# Altium footprint library Connector_Hirose_DF40.PcbLib: 70 footprints (part 2 of 5)
Each footprint in its own frame and in the unit in brackets; x right, y up, seen from the top. Pads: shape width x height; smd on the part's side, far side on the other; paste and mask are expansions set on the pad; w line width, h text height; cw(c..) or ccw(c..) is an arc to the next point about the centre after c.
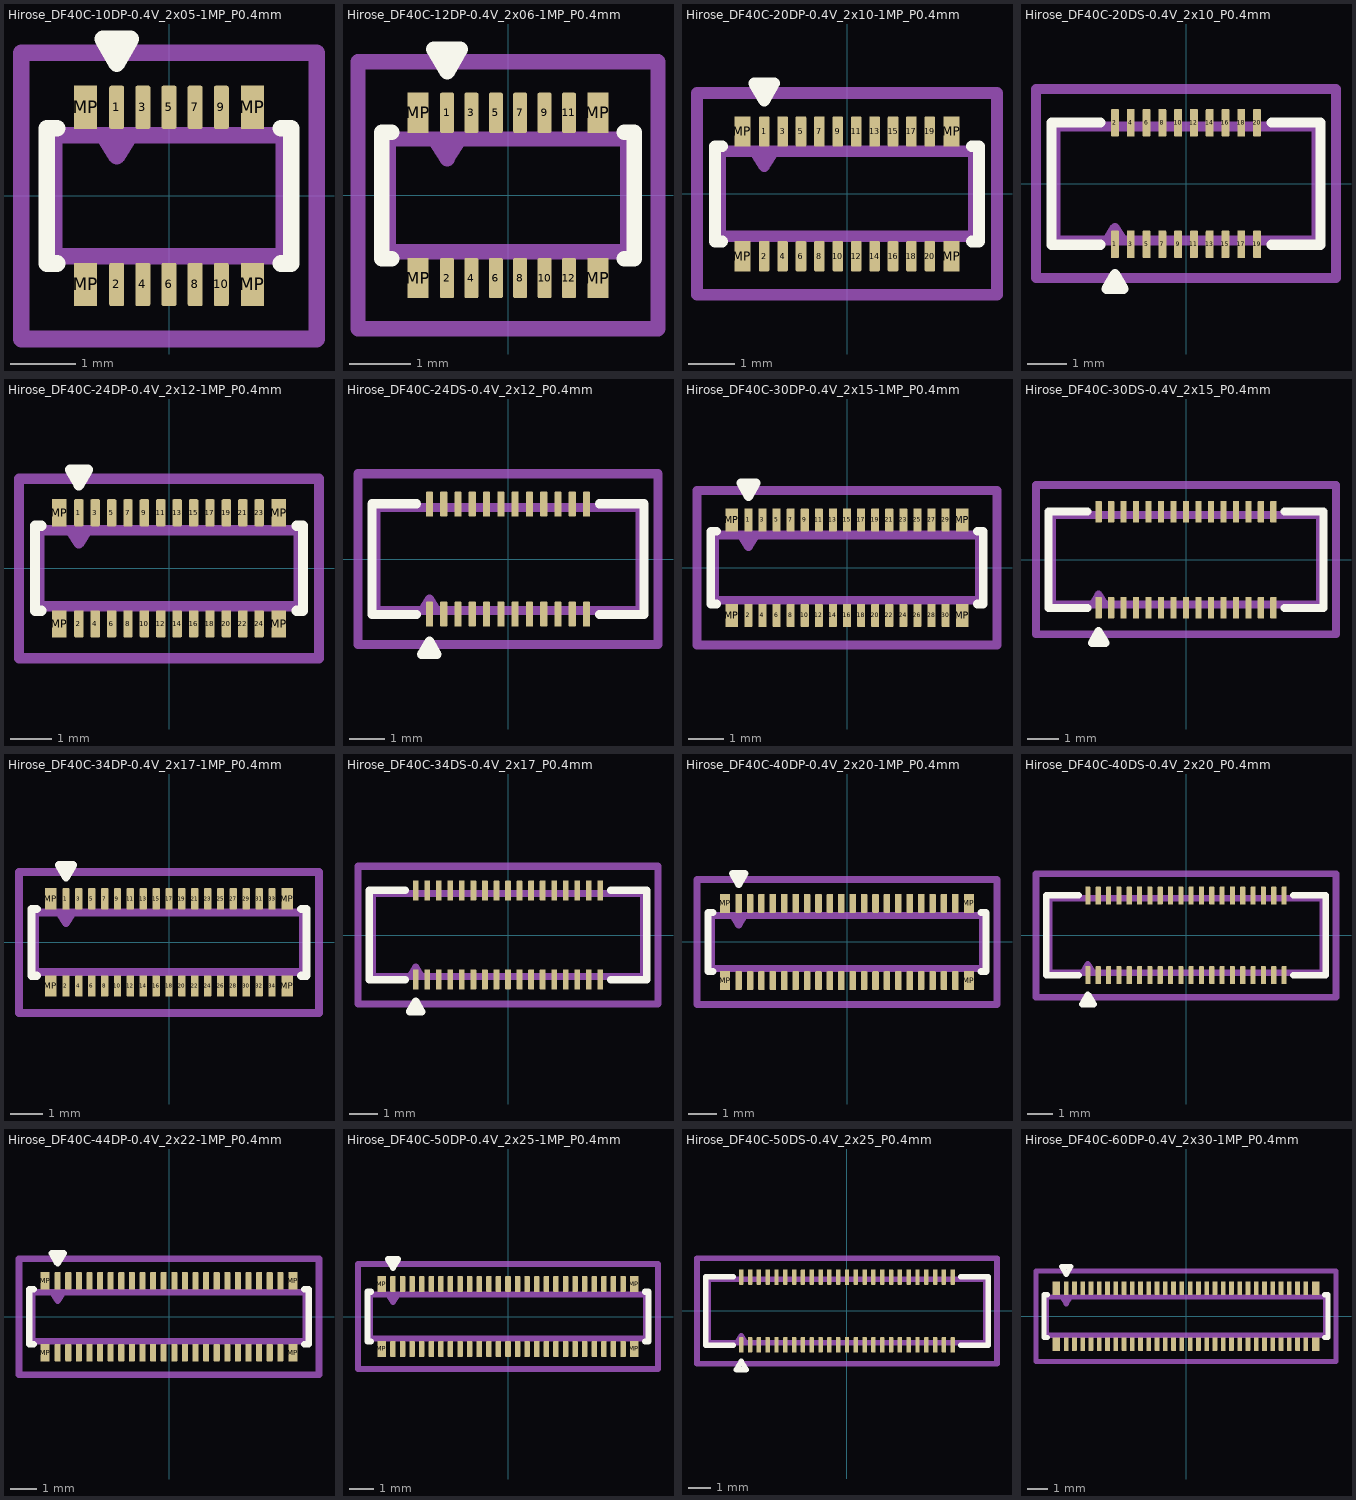
[diagram p1: the footprints below, top view; thin cyan lines are the x and y axes]

## Hirose_DF40C-10DP-0.4V_2x05-1MP_P0.4mm [mm]
pads (14):
  rrect25% 0.23x0.66 smd: 1(-0.8,1.355) 2(-0.8,-1.355) 3(-0.4,1.355) 4(-0.4,-1.355) 5(0,1.355) 6(0,-1.355) 7(0.4,1.355) 8(0.4,-1.355) 9(0.8,1.355) 10(0.8,-1.355)
  rect 0.35x0.66 smd: MP(-1.275,-1.355) MP(-1.275,1.355) MP(1.275,-1.355) MP(1.275,1.355)
F.SilkS:
  lines w0.254: -1.71,-1.035 -1.87,-1.035 -1.87,1.035 -1.71,1.035 ; 1.71,-1.035 1.87,-1.035 1.87,1.035 1.71,1.035 ; -1.017,2.4 -0.583,2.4 -0.8,2.025 -1.017,2.4
Top Assembly:
  lines w0.254: -1,0.925 -0.8,0.605 -0.6,0.925 ; -1.76,-0.925 1.76,-0.925 1.76,0.925 -1.76,0.925 -1.76,-0.925
  text "'.Designator'" at -3.559,-0.737 h0.88
Top Courtyard:
  lines w0.254: -2.26,-2.19 2.26,-2.19 2.26,2.19 -2.26,2.19 -2.26,-2.19
Top Designator:
  text ".Designator" at -7.748,-0.403 h1.52

## Hirose_DF40C-12DP-0.4V_2x06-1MP_P0.4mm [mm]
pads (16):
  rrect25% 0.23x0.66 smd: 1(-1,1.355) 2(-1,-1.355) 3(-0.6,1.355) 4(-0.6,-1.355) 5(-0.2,1.355) 6(-0.2,-1.355) 7(0.2,1.355) 8(0.2,-1.355) 9(0.6,1.355) 10(0.6,-1.355) 11(1,1.355) 12(1,-1.355)
  rect 0.35x0.66 smd: MP(-1.475,-1.355) MP(-1.475,1.355) MP(1.475,-1.355) MP(1.475,1.355)
F.SilkS:
  lines w0.254: -1.91,-1.035 -2.07,-1.035 -2.07,1.035 -1.91,1.035 ; 1.91,-1.035 2.07,-1.035 2.07,1.035 1.91,1.035 ; -1.217,2.4 -0.783,2.4 -1,2.025 -1.217,2.4
Top Assembly:
  lines w0.254: -1.2,0.925 -1,0.605 -0.8,0.925 ; -1.96,-0.925 1.96,-0.925 1.96,0.925 -1.96,0.925 -1.96,-0.925
  text "'.Designator'" at -3.969,-0.827 h0.98
Top Courtyard:
  lines w0.254: -2.46,-2.19 2.46,-2.19 2.46,2.19 -2.46,2.19 -2.46,-2.19
Top Designator:
  text ".Designator" at -7.768,-0.403 h1.52

## Hirose_DF40C-20DP-0.4V_2x10-1MP_P0.4mm [mm]
pads (24):
  rrect25% 0.23x0.66 smd: 1(-1.8,1.355) 2(-1.8,-1.355) 3(-1.4,1.355) 4(-1.4,-1.355) 5(-1,1.355) 6(-1,-1.355) 7(-0.6,1.355) 8(-0.6,-1.355) 9(-0.2,1.355) 10(-0.2,-1.355) 11(0.2,1.355) 12(0.2,-1.355) 13(0.6,1.355) 14(0.6,-1.355) 15(1,1.355) 16(1,-1.355) 17(1.4,1.355) 18(1.4,-1.355) 19(1.8,1.355) 20(1.8,-1.355)
  rect 0.35x0.66 smd: MP(-2.275,-1.355) MP(-2.275,1.355) MP(2.275,-1.355) MP(2.275,1.355)
F.SilkS:
  lines w0.254: -2.71,-1.035 -2.87,-1.035 -2.87,1.035 -2.71,1.035 ; 2.71,-1.035 2.87,-1.035 2.87,1.035 2.71,1.035 ; -2.017,2.4 -1.583,2.4 -1.8,2.025 -2.017,2.4
Top Assembly:
  lines w0.254: -2,0.925 -1.8,0.605 -1.6,0.925 ; -2.76,-0.925 2.76,-0.925 2.76,0.925 -2.76,0.925 -2.76,-0.925
  text "'.Designator'" at -4.047,-0.84 h1
Top Courtyard:
  lines w0.254: -3.26,-2.19 3.26,-2.19 3.26,2.19 -3.26,2.19 -3.26,-2.19
Top Designator:
  text ".Designator" at -7.768,-0.403 h1.52

## Hirose_DF40C-20DS-0.4V_2x10_P0.4mm [mm]
pads (20):
  rrect25% 0.2x0.7 smd: 1(-1.8,-1.54) 2(-1.8,1.54) 3(-1.4,-1.54) 4(-1.4,1.54) 5(-1,-1.54) 6(-1,1.54) 7(-0.6,-1.54) 8(-0.6,1.54) 9(-0.2,-1.54) 10(-0.2,1.54) 11(0.2,-1.54) 12(0.2,1.54) 13(0.6,-1.54) 14(0.6,1.54) 15(1,-1.54) 16(1,1.54) 17(1.4,-1.54) 18(1.4,1.54) 19(1.8,-1.54) 20(1.8,1.54)
F.SilkS:
  lines w0.254: -2.16,-1.55 -3.41,-1.55 -3.41,1.55 -2.16,1.55 ; 2.16,-1.55 3.41,-1.55 3.41,1.55 2.16,1.55 ; -2.017,-2.665 -1.583,-2.665 -1.8,-2.29 -2.017,-2.665
Top Assembly:
  lines w0.254: -2,-1.44 -1.8,-1.12 -1.6,-1.44 ; -3.3,-1.44 3.3,-1.44 3.3,1.44 -3.3,1.44 -3.3,-1.44
  text "'.Designator'" at -4.047,-0.84 h1
Top Courtyard:
  lines w0.254: -3.8,-2.39 3.8,-2.39 3.8,2.39 -3.8,2.39 -3.8,-2.39
Top Designator:
  text ".Designator" at -7.752,-0.645 h1.52

## Hirose_DF40C-24DP-0.4V_2x12-1MP_P0.4mm [mm]
pads (28):
  rrect25% 0.23x0.66 smd: 1(-2.2,1.355) 2(-2.2,-1.355) 3(-1.8,1.355) 4(-1.8,-1.355) 5(-1.4,1.355) 6(-1.4,-1.355) 7(-1,1.355) 8(-1,-1.355) 9(-0.6,1.355) 10(-0.6,-1.355) 11(-0.2,1.355) 12(-0.2,-1.355) 13(0.2,1.355) 14(0.2,-1.355) 15(0.6,1.355) 16(0.6,-1.355) 17(1,1.355) 18(1,-1.355) 19(1.4,1.355) 20(1.4,-1.355) 21(1.8,1.355) 22(1.8,-1.355) 23(2.2,1.355) 24(2.2,-1.355)
  rect 0.35x0.66 smd: MP(-2.675,-1.355) MP(-2.675,1.355) MP(2.675,-1.355) MP(2.675,1.355)
F.SilkS:
  lines w0.254: -3.11,-1.035 -3.27,-1.035 -3.27,1.035 -3.11,1.035 ; 3.11,-1.035 3.27,-1.035 3.27,1.035 3.11,1.035 ; -2.417,2.4 -1.983,2.4 -2.2,2.025 -2.417,2.4
Top Assembly:
  lines w0.254: -2.4,0.925 -2.2,0.605 -2,0.925 ; -3.16,-0.925 3.16,-0.925 3.16,0.925 -3.16,0.925 -3.16,-0.925
  text "'.Designator'" at -4.047,-0.84 h1
Top Courtyard:
  lines w0.254: -3.66,-2.19 3.66,-2.19 3.66,2.19 -3.66,2.19 -3.66,-2.19
Top Designator:
  text ".Designator" at -7.768,-0.403 h1.52

## Hirose_DF40C-24DS-0.4V_2x12_P0.4mm [mm]
pads (24):
  rrect25% 0.2x0.7 smd: 1(-2.2,-1.54) 2(-2.2,1.54) 3(-1.8,-1.54) 4(-1.8,1.54) 5(-1.4,-1.54) 6(-1.4,1.54) 7(-1,-1.54) 8(-1,1.54) 9(-0.6,-1.54) 10(-0.6,1.54) 11(-0.2,-1.54) 12(-0.2,1.54) 13(0.2,-1.54) 14(0.2,1.54) 15(0.6,-1.54) 16(0.6,1.54) 17(1,-1.54) 18(1,1.54) 19(1.4,-1.54) 20(1.4,1.54) 21(1.8,-1.54) 22(1.8,1.54) 23(2.2,-1.54) 24(2.2,1.54)
F.SilkS:
  lines w0.254: -2.56,-1.55 -3.81,-1.55 -3.81,1.55 -2.56,1.55 ; 2.56,-1.55 3.81,-1.55 3.81,1.55 2.56,1.55 ; -2.417,-2.665 -1.983,-2.665 -2.2,-2.29 -2.417,-2.665
Top Assembly:
  lines w0.254: -2.4,-1.44 -2.2,-1.12 -2,-1.44 ; -3.7,-1.44 3.7,-1.44 3.7,1.44 -3.7,1.44 -3.7,-1.44
  text "'.Designator'" at -4.047,-0.84 h1
Top Courtyard:
  lines w0.254: -4.2,-2.39 4.2,-2.39 4.2,2.39 -4.2,2.39 -4.2,-2.39
Top Designator:
  text ".Designator" at -7.618,-0.645 h1.52

## Hirose_DF40C-30DP-0.4V_2x15-1MP_P0.4mm [mm]
pads (34):
  rrect25% 0.23x0.66 smd: 1(-2.8,1.355) 2(-2.8,-1.355) 3(-2.4,1.355) 4(-2.4,-1.355) 5(-2,1.355) 6(-2,-1.355) 7(-1.6,1.355) 8(-1.6,-1.355) 9(-1.2,1.355) 10(-1.2,-1.355) 11(-0.8,1.355) 12(-0.8,-1.355) 13(-0.4,1.355) 14(-0.4,-1.355) 15(0,1.355) 16(0,-1.355) 17(0.4,1.355) 18(0.4,-1.355) 19(0.8,1.355) 20(0.8,-1.355) 21(1.2,1.355) 22(1.2,-1.355) 23(1.6,1.355) 24(1.6,-1.355) 25(2,1.355) 26(2,-1.355) 27(2.4,1.355) 28(2.4,-1.355) 29(2.8,1.355) 30(2.8,-1.355)
  rect 0.35x0.66 smd: MP(-3.275,-1.355) MP(-3.275,1.355) MP(3.275,-1.355) MP(3.275,1.355)
F.SilkS:
  lines w0.254: -3.71,-1.035 -3.87,-1.035 -3.87,1.035 -3.71,1.035 ; 3.71,-1.035 3.87,-1.035 3.87,1.035 3.71,1.035 ; -3.017,2.4 -2.583,2.4 -2.8,2.025 -3.017,2.4
Top Assembly:
  lines w0.254: -3,0.925 -2.8,0.605 -2.6,0.925 ; -3.76,-0.925 3.76,-0.925 3.76,0.925 -3.76,0.925 -3.76,-0.925
  text "'.Designator'" at -4.047,-0.84 h1
Top Courtyard:
  lines w0.254: -4.26,-2.19 4.26,-2.19 4.26,2.19 -4.26,2.19 -4.26,-2.19
Top Designator:
  text ".Designator" at -7.618,-0.403 h1.52

## Hirose_DF40C-30DS-0.4V_2x15_P0.4mm [mm]
pads (30):
  rrect25% 0.2x0.7 smd: 1(-2.8,-1.54) 2(-2.8,1.54) 3(-2.4,-1.54) 4(-2.4,1.54) 5(-2,-1.54) 6(-2,1.54) 7(-1.6,-1.54) 8(-1.6,1.54) 9(-1.2,-1.54) 10(-1.2,1.54) 11(-0.8,-1.54) 12(-0.8,1.54) 13(-0.4,-1.54) 14(-0.4,1.54) 15(0,-1.54) 16(0,1.54) 17(0.4,-1.54) 18(0.4,1.54) 19(0.8,-1.54) 20(0.8,1.54) 21(1.2,-1.54) 22(1.2,1.54) 23(1.6,-1.54) 24(1.6,1.54) 25(2,-1.54) 26(2,1.54) 27(2.4,-1.54) 28(2.4,1.54) 29(2.8,-1.54) 30(2.8,1.54)
F.SilkS:
  lines w0.254: -3.16,-1.55 -4.41,-1.55 -4.41,1.55 -3.16,1.55 ; 3.16,-1.55 4.41,-1.55 4.41,1.55 3.16,1.55 ; -3.017,-2.665 -2.583,-2.665 -2.8,-2.29 -3.017,-2.665
Top Assembly:
  lines w0.254: -3,-1.44 -2.8,-1.12 -2.6,-1.44 ; -4.3,-1.44 4.3,-1.44 4.3,1.44 -4.3,1.44 -4.3,-1.44
  text "'.Designator'" at -4.047,-0.84 h1
Top Courtyard:
  lines w0.254: -4.81,-2.39 4.81,-2.39 4.81,2.39 -4.81,2.39 -4.81,-2.39
Top Designator:
  text ".Designator" at -7.618,-0.645 h1.52

## Hirose_DF40C-34DP-0.4V_2x17-1MP_P0.4mm [mm]
pads (38):
  rrect25% 0.23x0.66 smd: 1(-3.2,1.355) 2(-3.2,-1.355) 3(-2.8,1.355) 4(-2.8,-1.355) 5(-2.4,1.355) 6(-2.4,-1.355) 7(-2,1.355) 8(-2,-1.355) 9(-1.6,1.355) 10(-1.6,-1.355) 11(-1.2,1.355) 12(-1.2,-1.355) 13(-0.8,1.355) 14(-0.8,-1.355) 15(-0.4,1.355) 16(-0.4,-1.355) 17(0,1.355) 18(0,-1.355) 19(0.4,1.355) 20(0.4,-1.355) 21(0.8,1.355) 22(0.8,-1.355) 23(1.2,1.355) 24(1.2,-1.355) 25(1.6,1.355) 26(1.6,-1.355) 27(2,1.355) 28(2,-1.355) 29(2.4,1.355) 30(2.4,-1.355) 31(2.8,1.355) 32(2.8,-1.355) 33(3.2,1.355) 34(3.2,-1.355)
  rect 0.35x0.66 smd: MP(-3.675,-1.355) MP(-3.675,1.355) MP(3.675,-1.355) MP(3.675,1.355)
F.SilkS:
  lines w0.254: -4.11,-1.035 -4.27,-1.035 -4.27,1.035 -4.11,1.035 ; 4.11,-1.035 4.27,-1.035 4.27,1.035 4.11,1.035 ; -3.417,2.4 -2.983,2.4 -3.2,2.025 -3.417,2.4
Top Assembly:
  lines w0.254: -3.4,0.925 -3.2,0.605 -3,0.925 ; -4.16,-0.925 4.16,-0.925 4.16,0.925 -4.16,0.925 -4.16,-0.925
  text "'.Designator'" at -4.047,-0.84 h1
Top Courtyard:
  lines w0.254: -4.66,-2.19 4.66,-2.19 4.66,2.19 -4.66,2.19 -4.66,-2.19
Top Designator:
  text ".Designator" at -7.618,-0.403 h1.52

## Hirose_DF40C-34DS-0.4V_2x17_P0.4mm [mm]
pads (34):
  rrect25% 0.2x0.7 smd: 1(-3.2,-1.54) 2(-3.2,1.54) 3(-2.8,-1.54) 4(-2.8,1.54) 5(-2.4,-1.54) 6(-2.4,1.54) 7(-2,-1.54) 8(-2,1.54) 9(-1.6,-1.54) 10(-1.6,1.54) 11(-1.2,-1.54) 12(-1.2,1.54) 13(-0.8,-1.54) 14(-0.8,1.54) 15(-0.4,-1.54) 16(-0.4,1.54) 17(0,-1.54) 18(0,1.54) 19(0.4,-1.54) 20(0.4,1.54) 21(0.8,-1.54) 22(0.8,1.54) 23(1.2,-1.54) 24(1.2,1.54) 25(1.6,-1.54) 26(1.6,1.54) 27(2,-1.54) 28(2,1.54) 29(2.4,-1.54) 30(2.4,1.54) 31(2.8,-1.54) 32(2.8,1.54) 33(3.2,-1.54) 34(3.2,1.54)
F.SilkS:
  lines w0.254: -3.56,-1.55 -4.81,-1.55 -4.81,1.55 -3.56,1.55 ; 3.56,-1.55 4.81,-1.55 4.81,1.55 3.56,1.55 ; -3.417,-2.665 -2.983,-2.665 -3.2,-2.29 -3.417,-2.665
Top Assembly:
  lines w0.254: -3.4,-1.44 -3.2,-1.12 -3,-1.44 ; -4.7,-1.44 4.7,-1.44 4.7,1.44 -4.7,1.44 -4.7,-1.44
  text "'.Designator'" at -4.047,-0.84 h1
Top Courtyard:
  lines w0.254: -5.2,-2.39 5.2,-2.39 5.2,2.39 -5.2,2.39 -5.2,-2.39
Top Designator:
  text ".Designator" at -7.618,-0.645 h1.52

## Hirose_DF40C-40DP-0.4V_2x20-1MP_P0.4mm [mm]
pads (44):
  rrect25% 0.23x0.66 smd: 1(-3.8,1.355) 2(-3.8,-1.355) 3(-3.4,1.355) 4(-3.4,-1.355) 5(-3,1.355) 6(-3,-1.355) 7(-2.6,1.355) 8(-2.6,-1.355) 9(-2.2,1.355) 10(-2.2,-1.355) 11(-1.8,1.355) 12(-1.8,-1.355) 13(-1.4,1.355) 14(-1.4,-1.355) 15(-1,1.355) 16(-1,-1.355) 17(-0.6,1.355) 18(-0.6,-1.355) 19(-0.2,1.355) 20(-0.2,-1.355) 21(0.2,1.355) 22(0.2,-1.355) 23(0.6,1.355) 24(0.6,-1.355) 25(1,1.355) 26(1,-1.355) 27(1.4,1.355) 28(1.4,-1.355) 29(1.8,1.355) 30(1.8,-1.355) 31(2.2,1.355) 32(2.2,-1.355) 33(2.6,1.355) 34(2.6,-1.355) 35(3,1.355) 36(3,-1.355) 37(3.4,1.355) 38(3.4,-1.355) 39(3.8,1.355) 40(3.8,-1.355)
  rect 0.35x0.66 smd: MP(-4.275,-1.355) MP(-4.275,1.355) MP(4.275,-1.355) MP(4.275,1.355)
F.SilkS:
  lines w0.254: -4.71,-1.035 -4.87,-1.035 -4.87,1.035 -4.71,1.035 ; 4.71,-1.035 4.87,-1.035 4.87,1.035 4.71,1.035 ; -4.017,2.4 -3.583,2.4 -3.8,2.025 -4.017,2.4
Top Assembly:
  lines w0.254: -4,0.925 -3.8,0.605 -3.6,0.925 ; -4.76,-0.925 4.76,-0.925 4.76,0.925 -4.76,0.925 -4.76,-0.925
  text "'.Designator'" at -4.047,-0.84 h1
Top Courtyard:
  lines w0.254: -5.26,-2.19 5.26,-2.19 5.26,2.19 -5.26,2.19 -5.26,-2.19
Top Designator:
  text ".Designator" at -7.618,-0.403 h1.52

## Hirose_DF40C-40DS-0.4V_2x20_P0.4mm [mm]
pads (40):
  rrect25% 0.2x0.7 smd: 1(-3.8,-1.54) 2(-3.8,1.54) 3(-3.4,-1.54) 4(-3.4,1.54) 5(-3,-1.54) 6(-3,1.54) 7(-2.6,-1.54) 8(-2.6,1.54) 9(-2.2,-1.54) 10(-2.2,1.54) 11(-1.8,-1.54) 12(-1.8,1.54) 13(-1.4,-1.54) 14(-1.4,1.54) 15(-1,-1.54) 16(-1,1.54) 17(-0.6,-1.54) 18(-0.6,1.54) 19(-0.2,-1.54) 20(-0.2,1.54) 21(0.2,-1.54) 22(0.2,1.54) 23(0.6,-1.54) 24(0.6,1.54) 25(1,-1.54) 26(1,1.54) 27(1.4,-1.54) 28(1.4,1.54) 29(1.8,-1.54) 30(1.8,1.54) 31(2.2,-1.54) 32(2.2,1.54) 33(2.6,-1.54) 34(2.6,1.54) 35(3,-1.54) 36(3,1.54) 37(3.4,-1.54) 38(3.4,1.54) 39(3.8,-1.54) 40(3.8,1.54)
F.SilkS:
  lines w0.254: -4.16,-1.55 -5.41,-1.55 -5.41,1.55 -4.16,1.55 ; 4.16,-1.55 5.41,-1.55 5.41,1.55 4.16,1.55 ; -4.017,-2.665 -3.583,-2.665 -3.8,-2.29 -4.017,-2.665
Top Assembly:
  lines w0.254: -4,-1.44 -3.8,-1.12 -3.6,-1.44 ; -5.3,-1.44 5.3,-1.44 5.3,1.44 -5.3,1.44 -5.3,-1.44
  text "'.Designator'" at -4.047,-0.84 h1
Top Courtyard:
  lines w0.254: -5.81,-2.39 5.81,-2.39 5.81,2.39 -5.81,2.39 -5.81,-2.39
Top Designator:
  text ".Designator" at -7.618,-0.645 h1.52

## Hirose_DF40C-44DP-0.4V_2x22-1MP_P0.4mm [mm]
pads (48):
  rrect25% 0.23x0.66 smd: 1(-4.2,1.355) 2(-4.2,-1.355) 3(-3.8,1.355) 4(-3.8,-1.355) 5(-3.4,1.355) 6(-3.4,-1.355) 7(-3,1.355) 8(-3,-1.355) 9(-2.6,1.355) 10(-2.6,-1.355) 11(-2.2,1.355) 12(-2.2,-1.355) 13(-1.8,1.355) 14(-1.8,-1.355) 15(-1.4,1.355) 16(-1.4,-1.355) 17(-1,1.355) 18(-1,-1.355) 19(-0.6,1.355) 20(-0.6,-1.355) 21(-0.2,1.355) 22(-0.2,-1.355) 23(0.2,1.355) 24(0.2,-1.355) 25(0.6,1.355) 26(0.6,-1.355) 27(1,1.355) 28(1,-1.355) 29(1.4,1.355) 30(1.4,-1.355) 31(1.8,1.355) 32(1.8,-1.355) 33(2.2,1.355) 34(2.2,-1.355) 35(2.6,1.355) 36(2.6,-1.355) 37(3,1.355) 38(3,-1.355) 39(3.4,1.355) 40(3.4,-1.355) 41(3.8,1.355) 42(3.8,-1.355) 43(4.2,1.355) 44(4.2,-1.355)
  rect 0.35x0.66 smd: MP(-4.675,-1.355) MP(-4.675,1.355) MP(4.675,-1.355) MP(4.675,1.355)
F.SilkS:
  lines w0.254: -5.11,-1.035 -5.27,-1.035 -5.27,1.035 -5.11,1.035 ; 5.11,-1.035 5.27,-1.035 5.27,1.035 5.11,1.035 ; -4.417,2.4 -3.983,2.4 -4.2,2.025 -4.417,2.4
Top Assembly:
  lines w0.254: -4.4,0.925 -4.2,0.605 -4,0.925 ; -5.16,-0.925 5.16,-0.925 5.16,0.925 -5.16,0.925 -5.16,-0.925
  text "'.Designator'" at -4.047,-0.84 h1
Top Courtyard:
  lines w0.254: -5.66,-2.19 5.66,-2.19 5.66,2.19 -5.66,2.19 -5.66,-2.19
Top Designator:
  text ".Designator" at -7.618,-0.403 h1.52

## Hirose_DF40C-50DP-0.4V_2x25-1MP_P0.4mm [mm]
pads (54):
  rrect25% 0.23x0.66 smd: 1(-4.8,1.355) 2(-4.8,-1.355) 3(-4.4,1.355) 4(-4.4,-1.355) 5(-4,1.355) 6(-4,-1.355) 7(-3.6,1.355) 8(-3.6,-1.355) 9(-3.2,1.355) 10(-3.2,-1.355) 11(-2.8,1.355) 12(-2.8,-1.355) 13(-2.4,1.355) 14(-2.4,-1.355) 15(-2,1.355) 16(-2,-1.355) 17(-1.6,1.355) 18(-1.6,-1.355) 19(-1.2,1.355) 20(-1.2,-1.355) 21(-0.8,1.355) 22(-0.8,-1.355) 23(-0.4,1.355) 24(-0.4,-1.355) 25(0,1.355) 26(0,-1.355) 27(0.4,1.355) 28(0.4,-1.355) 29(0.8,1.355) 30(0.8,-1.355) 31(1.2,1.355) 32(1.2,-1.355) 33(1.6,1.355) 34(1.6,-1.355) 35(2,1.355) 36(2,-1.355) 37(2.4,1.355) 38(2.4,-1.355) 39(2.8,1.355) 40(2.8,-1.355) 41(3.2,1.355) 42(3.2,-1.355) 43(3.6,1.355) 44(3.6,-1.355) 45(4,1.355) 46(4,-1.355) 47(4.4,1.355) 48(4.4,-1.355) 49(4.8,1.355) 50(4.8,-1.355)
  rect 0.35x0.66 smd: MP(-5.275,-1.355) MP(-5.275,1.355) MP(5.275,-1.355) MP(5.275,1.355)
F.SilkS:
  lines w0.254: -5.71,-1.035 -5.87,-1.035 -5.87,1.035 -5.71,1.035 ; 5.71,-1.035 5.87,-1.035 5.87,1.035 5.71,1.035 ; -5.017,2.4 -4.583,2.4 -4.8,2.025 -5.017,2.4
Top Assembly:
  lines w0.254: -5,0.925 -4.8,0.605 -4.6,0.925 ; -5.76,-0.925 5.76,-0.925 5.76,0.925 -5.76,0.925 -5.76,-0.925
  text "'.Designator'" at -4.047,-0.84 h1
Top Courtyard:
  lines w0.254: -6.26,-2.19 6.26,-2.19 6.26,2.19 -6.26,2.19 -6.26,-2.19
Top Designator:
  text ".Designator" at -7.618,-0.403 h1.52

## Hirose_DF40C-50DS-0.4V_2x25_P0.4mm [mm]
pads (50):
  rrect25% 0.2x0.7 smd: 1(-4.8,-1.54) 2(-4.8,1.54) 3(-4.4,-1.54) 4(-4.4,1.54) 5(-4,-1.54) 6(-4,1.54) 7(-3.6,-1.54) 8(-3.6,1.54) 9(-3.2,-1.54) 10(-3.2,1.54) 11(-2.8,-1.54) 12(-2.8,1.54) 13(-2.4,-1.54) 14(-2.4,1.54) 15(-2,-1.54) 16(-2,1.54) 17(-1.6,-1.54) 18(-1.6,1.54) 19(-1.2,-1.54) 20(-1.2,1.54) 21(-0.8,-1.54) 22(-0.8,1.54) 23(-0.4,-1.54) 24(-0.4,1.54) 25(0,-1.54) 26(0,1.54) 27(0.4,-1.54) 28(0.4,1.54) 29(0.8,-1.54) 30(0.8,1.54) 31(1.2,-1.54) 32(1.2,1.54) 33(1.6,-1.54) 34(1.6,1.54) 35(2,-1.54) 36(2,1.54) 37(2.4,-1.54) 38(2.4,1.54) 39(2.8,-1.54) 40(2.8,1.54) 41(3.2,-1.54) 42(3.2,1.54) 43(3.6,-1.54) 44(3.6,1.54) 45(4,-1.54) 46(4,1.54) 47(4.4,-1.54) 48(4.4,1.54) 49(4.8,-1.54) 50(4.8,1.54)
F.SilkS:
  lines w0.254: -5.16,-1.55 -6.41,-1.55 -6.41,1.55 -5.16,1.55 ; 5.16,-1.55 6.41,-1.55 6.41,1.55 5.16,1.55 ; -5.017,-2.665 -4.583,-2.665 -4.8,-2.29 -5.017,-2.665
Top Assembly:
  lines w0.254: -5,-1.44 -4.8,-1.12 -4.6,-1.44 ; -6.3,-1.44 6.3,-1.44 6.3,1.44 -6.3,1.44 -6.3,-1.44
  text "'.Designator'" at -4.047,-0.84 h1
Top Courtyard:
  lines w0.254: -6.81,-2.39 6.81,-2.39 6.81,2.39 -6.81,2.39 -6.81,-2.39
Top Designator:
  text ".Designator" at -7.618,-0.645 h1.52

## Hirose_DF40C-60DP-0.4V_2x30-1MP_P0.4mm [mm]
pads (64):
  rrect25% 0.23x0.66 smd: 1(-5.8,1.355) 2(-5.8,-1.355) 3(-5.4,1.355) 4(-5.4,-1.355) 5(-5,1.355) 6(-5,-1.355) 7(-4.6,1.355) 8(-4.6,-1.355) 9(-4.2,1.355) 10(-4.2,-1.355) 11(-3.8,1.355) 12(-3.8,-1.355) 13(-3.4,1.355) 14(-3.4,-1.355) 15(-3,1.355) 16(-3,-1.355) 17(-2.6,1.355) 18(-2.6,-1.355) 19(-2.2,1.355) 20(-2.2,-1.355) 21(-1.8,1.355) 22(-1.8,-1.355) 23(-1.4,1.355) 24(-1.4,-1.355) 25(-1,1.355) 26(-1,-1.355) 27(-0.6,1.355) 28(-0.6,-1.355) 29(-0.2,1.355) 30(-0.2,-1.355) 31(0.2,1.355) 32(0.2,-1.355) 33(0.6,1.355) 34(0.6,-1.355) 35(1,1.355) 36(1,-1.355) 37(1.4,1.355) 38(1.4,-1.355) 39(1.8,1.355) 40(1.8,-1.355) 41(2.2,1.355) 42(2.2,-1.355) 43(2.6,1.355) 44(2.6,-1.355) 45(3,1.355) 46(3,-1.355) 47(3.4,1.355) 48(3.4,-1.355) 49(3.8,1.355) 50(3.8,-1.355) 51(4.2,1.355) 52(4.2,-1.355) 53(4.6,1.355) 54(4.6,-1.355) 55(5,1.355) 56(5,-1.355) 57(5.4,1.355) 58(5.4,-1.355) 59(5.8,1.355) 60(5.8,-1.355)
  rect 0.35x0.66 smd: MP(-6.275,-1.355) MP(-6.275,1.355) MP(6.275,-1.355) MP(6.275,1.355)
F.SilkS:
  lines w0.254: -6.71,-1.035 -6.87,-1.035 -6.87,1.035 -6.71,1.035 ; 6.71,-1.035 6.87,-1.035 6.87,1.035 6.71,1.035 ; -6.017,2.4 -5.583,2.4 -5.8,2.025 -6.017,2.4
Top Assembly:
  lines w0.254: -6,0.925 -5.8,0.605 -5.6,0.925 ; -6.76,-0.925 6.76,-0.925 6.76,0.925 -6.76,0.925 -6.76,-0.925
  text "'.Designator'" at -4.047,-0.84 h1
Top Courtyard:
  lines w0.254: -7.26,-2.19 7.26,-2.19 7.26,2.19 -7.26,2.19 -7.26,-2.19
Top Designator:
  text ".Designator" at -7.618,-0.403 h1.52